# Altium schematic symbol library BMS_Components.SchLib: 16 symbols
Pins are listed as number, name and electrical type; pins without a type are passive.

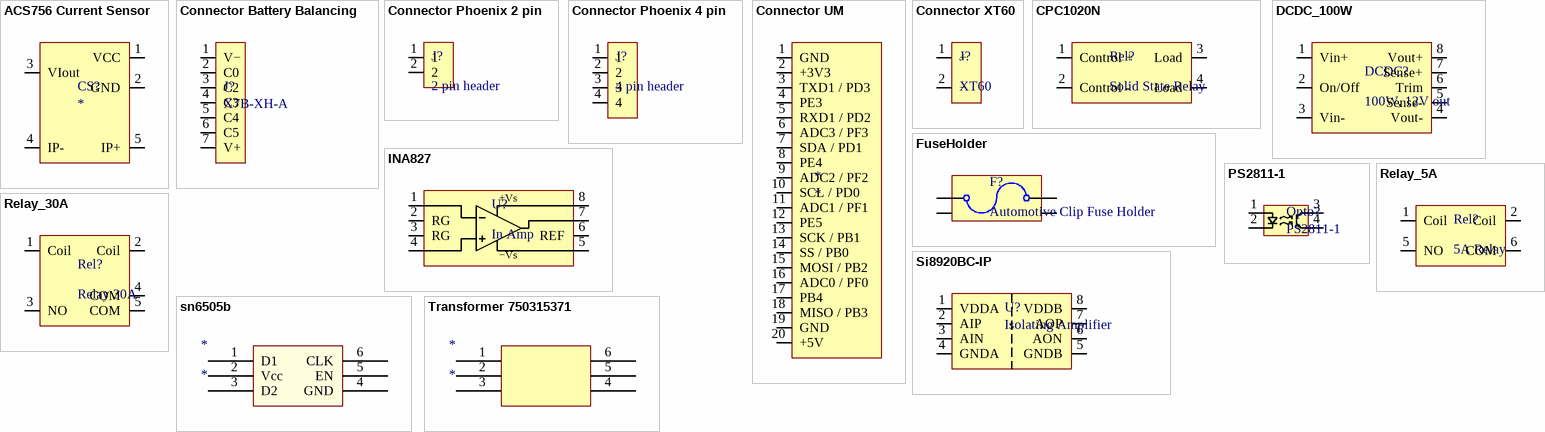
[diagram p0: symbols ACS756 Current Sensor to Transformer 750315371]

## ACS756 Current Sensor
designator CS?
50A Current Sensor
footprint ACS756 Current Sensor (50A Current Sensor)
pins: 1 VCC, 2 GND, 3 VIout, 4 IP-, 5 IP+

## Connector Battery Balancing
designator J?, comment X7B-XH-A
footprint S7B-XH-A (7 pin battery balancing connector)
pins: 1 V−, 2 C0, 3 C2, 4 C3, 5 C4, 6 C5, 7 V+

## Connector Phoenix 2 pin
designator J?, comment 2 pin header
2 pin pheonix header (green)
footprint Connector 2 pin Pheonix (2 pin green pheonix connector)
pins: 1, 2

## Connector Phoenix 4 pin
designator J?, comment 4 pin header
4 pin pheonix header (green)
footprint Connector 4 pin Pheonix (4 pin green pheonix connector)
pins: 1, 2, 3, 4

## Connector UM
designator *
footprint Connector 20 pin (Horizontal 20 pin connector for UM)
pins: 1 GND, 2 +3V3, 3 TXD1 / PD3, 4 PE3, 5 RXD1 / PD2, 6 ADC3 / PF3, 7 SDA / PD1, 8 PE4, 9 ADC2 / PF2, 10 SCL / PD0, 11 ADC1 / PF1, 12 PE5, 13 SCK / PB1, 14 SS / PB0, 15 MOSI / PB2, 16 ADC0 / PF0, 17 PB4, 18 MISO / PB3, 19 GND, 20 +5V

## Connector XT60
designator J?, comment XT60
footprint Connector XT60 (XT60 Battery Connector)
pins: 1 +, 2 −

## CPC1020N
designator Rel?, comment Solid State Relay
Isolated solid state relay, 1.2A, 30V
footprint SOP254P610X218-4N (SOP, 4-Leads, Body 4.09x3.81mm, Pitch 2.54mm, IPC Medium Density)
pins: 1 Control +, 2 Control -, 3 Load, 4 Load

## DCDC_100W
designator DCDC?, comment 100W, 12V out
footprint DCDC 100W (DCDC 100W, 12V)
pins: 1 Vin+, 2 On/Off, 3 Vin-, 4 Vout-, 5 Sense-, 6 Trim, 7 Sense+, 8 Vout+

## FuseHolder
designator F?, comment Automotive Clip Fuse Holder
footprint Automotive Fuse Holder
pins: 1, 2, 3, 4

## INA827
designator U?, comment In Amp
Minimum Gain 5
footprint TSOP65P490X110-8N (TSOP, 8-Leads, Body 3.00x3.00mm, Pitch 0.65mm, IPC Medium Density)
pins: 1, 2 RG, 3 RG, 4, 5, 6 REF, 7, 8
text: +Vs; −Vs

## PS2811-1
designator Opto?
one channel optocoupler
footprint SOP127P700X200-4N (SOP, 4-Leads, Body 2.70x4.40mm, Pitch 1.27mm, IPC Medium Density)
pins: 1, 2, 3, 4

## Relay_5A
designator Rel?, comment 5A Relay
5A, Slim, 1 Form A, 12V Coil voltage
footprint Relay 5A (5A, Slim, 1 Form A, 12V Coil voltage)
pins: 1 Coil, 2 Coil, 5 NO, 6 COM

## Relay_30A
designator Rel?, comment Relay 30A
30A, Tiny, 1 Form A, 12V Coil voltage
footprint RELAY 30A (30A, Tiny, 1 Form A, 12V Coil voltage)
pins: 1 Coil, 2 Coil, 3 NO, 4 COM, 5 COM

## Si8920BC-IP
designator U?, comment Isolating Amplifier
footprint SOP254P970X419-8M (SOP, 8-Leads, Body 9.65x7.62mm, Pitch 2.54mm, IPC Low Density)
pins: 1 VDDA, 2 AIP, 3 AIN, 4 GNDA, 5 GNDB, 6 AON, 7 AOP, 8 VDDB

## sn6505b
designator *
footprint sn6505b (SOT23, 6-Leads, Body 2,90x2,45mm, Pitch 0,95mm, IPC Medium Density)
pins: 1 D1, 2 Vcc, 3 D2, 4 GND, 5 EN, 6 CLK

## Transformer 750315371
designator *
footprint Transformer 750315371 (SOP, 6-Leads, Body 8,30x9,25mm, Pitch 2,54mm, IPC Medium Density)
pins: 1, 2, 3, 4, 5, 6